# EAGLE library part M55-7101242R (library Harwin)
HARWIN - M55-7101242R - CONN, HEADER, R/A, 12POS, 2ROW, 1.27MM Source: Datasheet <https://componentsearchengine.com/Datasheets/1/M55-7101242R.pdf>
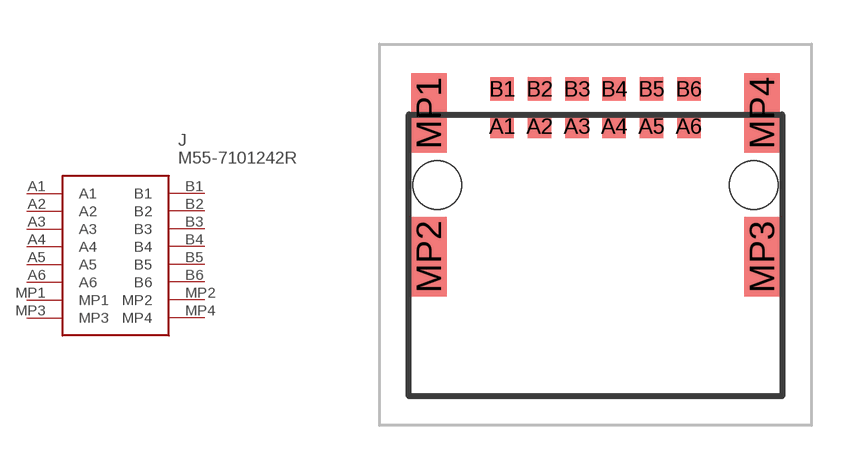
[diagram p0: symbol with the pads of M557101242R; footprint M557101242R]

Designator prefix J

## M55-7101242R (DESCRIPTION: HARWIN - M55-7101242R - CONN, HEADER, R/A, 12POS, 2ROW, 1.27MM; HEIGHT: 3.68mm; MANUFACTURER_NAME: HARWIN; MANUFACTURER_PART_NUMBER: M55-7101242R; MOUSER_PART_NUMBER: 855-M55-7101242R; MOUSER_PRICE-STOCK: https://www.mouser.com/Search/Refine.aspx?Keyword=855-M55-7101242R)  [M557101242R]
A1  A1
A2  A2
A3  A3
A4  A4
A5  A5
A6  A6
B1  B1
B2  B2
B3  B3
B4  B4
B5  B5
B6  B6
MP1  MP1
MP2  MP2
MP3  MP3
MP4  MP4

## Footprint M557101242R (pad centres in mm)
M55-7101242R
smd 0.8 x 0.8: A1 -3.175,2; A2 -1.905,2; A3 -0.635,2; A4 0.635,2; A5 1.905,2; A6 3.175,2; B1 -3.175,3.27; B2 -1.905,3.27; B3 -0.635,3.27; B4 0.635,3.27; B5 1.905,3.27; B6 3.175,3.27
smd 1.2 x 2.7: MP1 -5.67,2.45; MP2 -5.67,-2.45; MP3 5.67,-2.45; MP4 5.67,2.45
hole 1.65 at -5.385,0
hole 1.65 at 5.385,0